# Altium schematic symbol library IC_temp.SchLib: 1 symbol
Pins are listed as number, name and electrical type; pins without a type are passive.

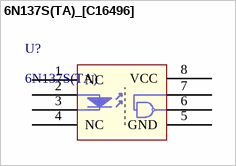
[diagram p0: symbol 6N137S(TA)_[C16496]]

## 6N137S(TA)_[C16496]
designator U?, comment 6N137S(TA)
贴片光耦; ComponentLink1Description: 供应商链接; ComponentLink1URL: http://www.szlcsc.com/product/details_17178.html; Package: SMD-8_6.3mm; Supplier: LC; SuppliersPartNumber: C16496
footprint SMD-8_6.3mm
pins: 1 NC, 2 A "Anode", 3 K "Cathode", 4 NC, 5 GND, 6 VO, 7 VE, 8 VCC